# EAGLE library part DS1100-125 (library 1_spektrak)
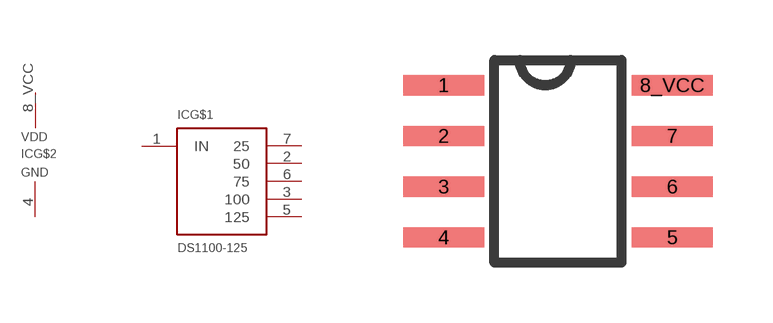
[diagram p1: symbol with the pads of DS1100-8SO; footprint DS1100-8SO]

Designator prefix IC; gates G$1=DS1100 G$2=PWRGND

## DS1100-125  [DS1100-8SO]
1  G$1:IN  in
2  G$1:50  out
3  G$1:100  out
4  G$2:GND  pwr
5  G$1:125  out
6  G$1:75  out
7  G$1:25  out
8_VCC  G$2:VDD  pwr

## Footprint DS1100-8SO (pad centres in mm)
smd 2.032 x 0.508: 1 -2.54,1.27; 2 -2.54,0; 3 -2.54,-1.27; 4 -2.54,-2.54; 5 3.175,-2.54; 6 3.175,-1.27; 7 3.175,0; 8_VCC 3.175,1.27